# Altium footprint library M20-7820446.PcbLib: 1 footprints
Each footprint in its own frame and in the unit in brackets; x right, y up, seen from the top. Pads: shape width x height; smd on the part's side, far side on the other; paste and mask are expansions set on the pad; w line width, h text height; cw(c..) or ccw(c..) is an arc to the next point about the centre after c.
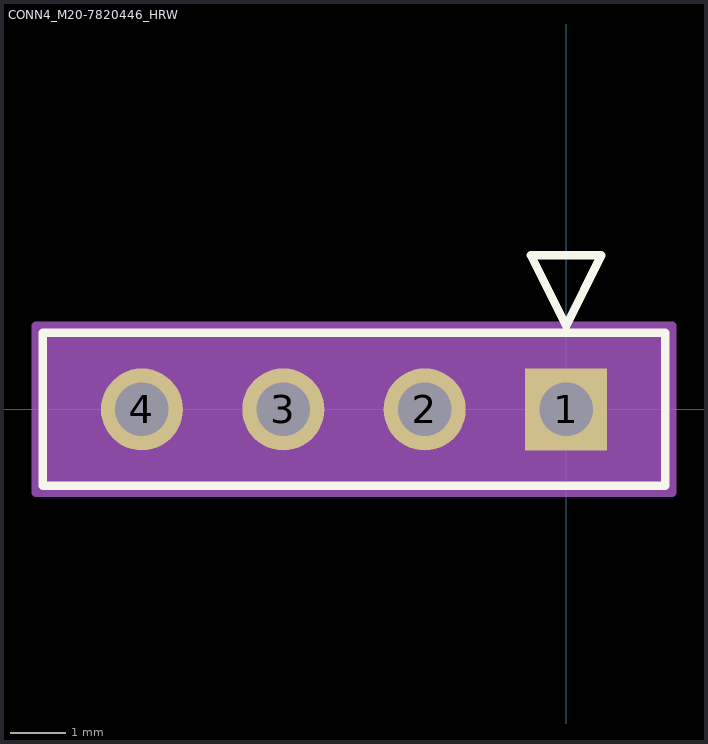
[diagram p0: the footprint, top view; thin cyan lines are the x and y axes]

## CONN4_M20-7820446_HRW [mil]
pads (4):
  rect 58x58 / inner round 60 / far side rect 58x58 hole 38 paste-29 mask+0: 1(0,0)
  round 58 / inner round 60 / far side round 58 hole 38 paste-29 mask+0: 2(-100,0) 3(-200,0) 4(-300,0)
Top Overlay:
  lines w6: -370,-54 70,-54 70,54 -370,54 -370,-54 ; -25,109 0,59 25,109 -25,109
Mechanical 13:
  lines w1: -365,-49 65,-49 65,49 -365,49 -365,-49 ; -25,109 0,59 25,109 -25,109
Mechanical 15:
  region: 75,59 -375,59 -375,-59 75,-59
  lines w6: -375,-59 -375,59 75,59 75,-59 -375,-59